# Altium schematic symbol library Caps$.SchLib: 208 symbols (part 2 of 2)
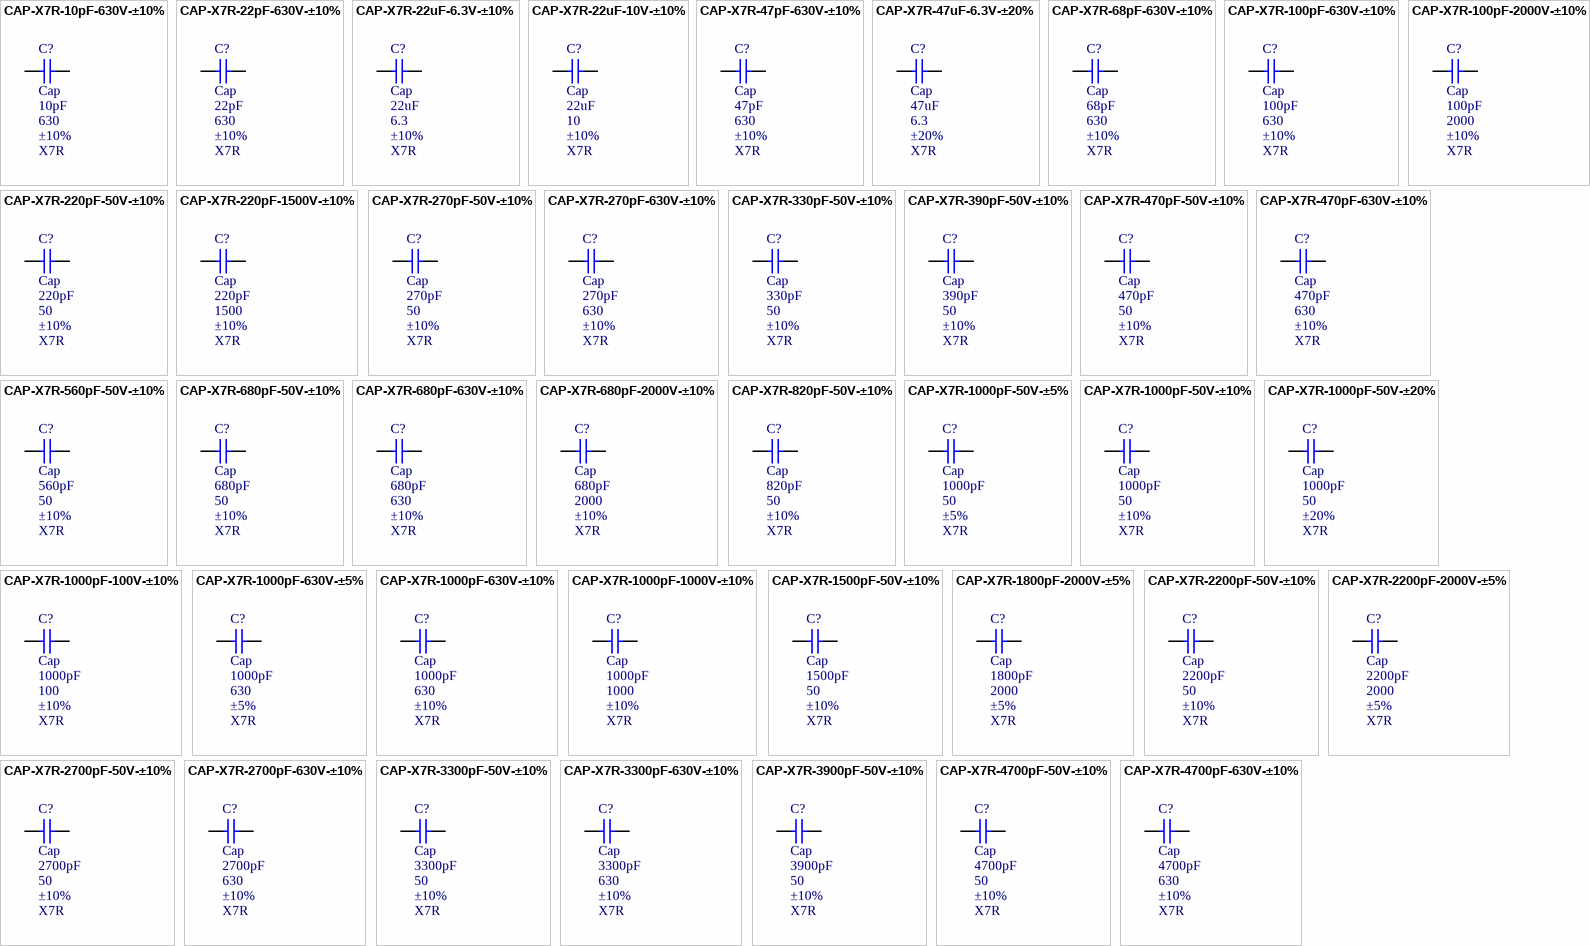
[diagram p6: symbols CAP-X7R-10pF-630V-±10% to CAP-X7R-4700pF-630V-±10%]

## CAP-X7R-220pF-50V-±10%
designator C?, comment Cap  value 220pF  WV: 50  Tolerance: ±10%  Type: X7R
CAP CER 220pF 50v X7R 0805; MPN: C0805C221K5RACTU; Name: CAP-X7R-220pF-50V-±10%; PN: 399-1138-1-ND; URL: http://www.digikey.ca/product-detail/en/C0805C221K5RACTU/399-1138-1-ND
footprint CAPC2012X09M (Chip Capacitor, 2-Leads, Body 2.00x1.25mm, IPC Low Density)
pins: 1, 2

## CAP-X7R-220pF-1500V-±10%
designator C?, comment Cap  value 220pF  WV: 1500  Tolerance: ±10%  Type: X7R
CAP CER 220pF 1500v X7R 1210; MPN: C1210C221KFRACTU; Name: CAP-X7R-220pF-1500V-±10%; PN: 399-3440-1-ND; URL: http://www.digikey.ca/product-detail/en/C1210C221KFRACTU/399-3440-1-ND
footprint CAPC2012X09M (Chip Capacitor, 2-Leads, Body 2.00x1.25mm, IPC Low Density)
footprint CAPC3225X25M
pins: 1, 2

## CAP-X7R-270pF-50V-±10%
designator C?, comment Cap  value 270pF  WV: 50  Tolerance: ±10%  Type: X7R
CAP CER 270pF 50v X7R 0805; MPN: C0805C271K5RACTU; Name: CAP-X7R-270pF-50V-±10%; PN: 399-1139-1-ND; URL: http://www.digikey.ca/product-detail/en/C0805C271K5RACTU/399-1139-1-ND
footprint CAPC2012X09M (Chip Capacitor, 2-Leads, Body 2.00x1.25mm, IPC Low Density)
pins: 1, 2

## CAP-X7R-270pF-630V-±10%
designator C?, comment Cap  value 270pF  WV: 630  Tolerance: ±10%  Type: X7R
CAP CER 270pF 630v X7R 0805; MPN: C0805C271KBRACTU; Name: CAP-X7R-270pF-630V-±10%; PN: 399-5572-1-ND; URL: http://www.digikey.ca/product-detail/en/C0805C271KBRACTU/399-5572-1-ND
footprint CAPC2012X09M (Chip Capacitor, 2-Leads, Body 2.00x1.25mm, IPC Low Density)
pins: 1, 2

## CAP-X7R-330pF-50V-±10%
designator C?, comment Cap  value 330pF  WV: 50  Tolerance: ±10%  Type: X7R
CAP CER 330pF 50v X7R 0805; MPN: C0805C331K5RACTU; Name: CAP-X7R-330pF-50V-±10%; PN: 399-1140-1-ND; URL: http://www.digikey.ca/product-detail/en/C0805C331K5RACTU/399-1140-1-ND
footprint CAPC2012X09M (Chip Capacitor, 2-Leads, Body 2.00x1.25mm, IPC Low Density)
pins: 1, 2

## CAP-X7R-390pF-50V-±10%
designator C?, comment Cap  value 390pF  WV: 50  Tolerance: ±10%  Type: X7R
CAP CER 390pF 50v X7R 0805; MPN: C0805C391K5RACTU; Name: CAP-X7R-390pF-50V-±10%; PN: 399-1141-1-ND; URL: http://www.digikey.ca/product-detail/en/C0805C391K5RACTU/399-1141-1-ND
footprint CAPC2012X09M (Chip Capacitor, 2-Leads, Body 2.00x1.25mm, IPC Low Density)
pins: 1, 2

## CAP-X7R-470pF-50V-±10%
designator C?, comment Cap  value 470pF  WV: 50  Tolerance: ±10%  Type: X7R
CAP CER 470pF 50v X7R 0805; MPN: C0805C471K5RACTU; Name: CAP-X7R-470pF-50V-±10%; PN: 399-1142-1-ND; URL: http://www.digikey.ca/product-detail/en/C0805C471K5RACTU/399-1142-1-ND
footprint CAPC2012X09M (Chip Capacitor, 2-Leads, Body 2.00x1.25mm, IPC Low Density)
pins: 1, 2

## CAP-X7R-470pF-630V-±10%
designator C?, comment Cap  value 470pF  WV: 630  Tolerance: ±10%  Type: X7R
CAP CER 470pF 630v X7R 1210; MPN: C1210C471KBRACTU; Name: CAP-X7R-470pF-630V-±10%; PN: 399-5591-1-ND; URL: http://www.digikey.ca/product-detail/en/C1210C471KBRACTU/399-5591-1-ND
footprint CAPC2012X09M (Chip Capacitor, 2-Leads, Body 2.00x1.25mm, IPC Low Density)
footprint CAPC3225X25M
pins: 1, 2

## CAP-X7R-560pF-50V-±10%
designator C?, comment Cap  value 560pF  WV: 50  Tolerance: ±10%  Type: X7R
CAP CER 560pF 50v X7R 0805; MPN: C0805C561K5RACTU; Name: CAP-X7R-560pF-50V-±10%; PN: 399-1143-1-ND; URL: http://www.digikey.ca/product-detail/en/C0805C561K5RACTU/399-1143-1-ND
footprint CAPC2012X09M (Chip Capacitor, 2-Leads, Body 2.00x1.25mm, IPC Low Density)
pins: 1, 2

## CAP-X7R-680pF-50V-±10%
designator C?, comment Cap  value 680pF  WV: 50  Tolerance: ±10%  Type: X7R
CAP CER 680pF 50v X7R 0805; MPN: C0805C681K5RACTU; Name: CAP-X7R-680pF-50V-±10%; PN: 399-1144-1-ND; URL: http://www.digikey.ca/product-detail/en/C0805C681K5RACTU/399-1144-1-ND
footprint CAPC2012X09M (Chip Capacitor, 2-Leads, Body 2.00x1.25mm, IPC Low Density)
pins: 1, 2

## CAP-X7R-680pF-630V-±10%
designator C?, comment Cap  value 680pF  WV: 630  Tolerance: ±10%  Type: X7R
CAP CER 680pF 630v X7R 0805; MPN: C0805C681KBRACTU; Name: CAP-X7R-680pF-630V-±10%; PN: 399-5573-1-ND; URL: http://www.digikey.ca/product-detail/en/C0805C681KBRACTU/399-5573-1-ND
footprint CAPC2012X09M (Chip Capacitor, 2-Leads, Body 2.00x1.25mm, IPC Low Density)
pins: 1, 2

## CAP-X7R-680pF-2000V-±10%
designator C?, comment Cap  value 680pF  WV: 2000  Tolerance: ±10%  Type: X7R
CAP CER 680pF 2000v X7R 1210; MPN: C1210C681KGRACTU; Name: CAP-X7R-680pF-2000V-±10%; PN: 399-3441-1-ND; URL: http://www.digikey.ca/product-detail/en/C1210C681KGRACTU/399-3441-1-ND
footprint CAPC2012X09M (Chip Capacitor, 2-Leads, Body 2.00x1.25mm, IPC Low Density)
footprint CAPC3225X25M
pins: 1, 2

## CAP-X7R-820pF-50V-±10%
designator C?, comment Cap  value 820pF  WV: 50  Tolerance: ±10%  Type: X7R
CAP CER 820pF 50v X7R 0805; MPN: C0805C821K5RACTU; Name: CAP-X7R-820pF-50V-±10%; PN: 399-1145-1-ND; URL: http://www.digikey.ca/product-detail/en/C0805C821K5RACTU/399-1145-1-ND
footprint CAPC2012X09M (Chip Capacitor, 2-Leads, Body 2.00x1.25mm, IPC Low Density)
pins: 1, 2

## CAP-X7R-1000pF-50V-±5%
designator C?, comment Cap  value 1000pF  WV: 50  Tolerance: ±5%  Type: X7R
CAP CER 1000pF 50v X7R 0805; MPN: C0805C102J5RACTU; Name: CAP-X7R-1000pF-50V-±5%; PN: 399-1149-1-ND; URL: http://www.digikey.ca/product-detail/en/C0805C102J5RACTU/399-1149-1-ND
footprint CAPC2012X09M (Chip Capacitor, 2-Leads, Body 2.00x1.25mm, IPC Low Density)
pins: 1, 2

## CAP-X7R-1000pF-50V-±10%
designator C?, comment Cap  value 1000pF  WV: 50  Tolerance: ±10%  Type: X7R
CAP CER 1000pF 50v X7R 0805; MPN: C0805C102K5RACTU; Name: CAP-X7R-1000pF-50V-±10%; PN: 399-1147-1-ND; URL: http://www.digikey.ca/product-detail/en/C0805C102K5RACTU/399-1147-1-ND
footprint CAPC2012X09M (Chip Capacitor, 2-Leads, Body 2.00x1.25mm, IPC Low Density)
pins: 1, 2

## CAP-X7R-1000pF-50V-±20%
designator C?, comment Cap  value 1000pF  WV: 50  Tolerance: ±20%  Type: X7R
CAP CER 1000pF 50v X7R 0805; MPN: C0805C102M5RACTU; Name: CAP-X7R-1000pF-50V-±20%; PN: 399-1146-1-ND; URL: http://www.digikey.ca/product-detail/en/C0805C102M5RACTU/399-1146-1-ND
footprint CAPC2012X09M (Chip Capacitor, 2-Leads, Body 2.00x1.25mm, IPC Low Density)
pins: 1, 2

## CAP-X7R-1000pF-100V-±10%
designator C?, comment Cap  value 1000pF  WV: 100  Tolerance: ±10%  Type: X7R
CAP CER 1000pF 100v X7R 0805; MPN: C0805C102K1RACTU; Name: CAP-X7R-1000pF-100V-±10%; PN: 399-1148-1-ND; URL: http://www.digikey.ca/product-detail/en/C0805C102K1RACTU/399-1148-1-ND
footprint CAPC2012X09M (Chip Capacitor, 2-Leads, Body 2.00x1.25mm, IPC Low Density)
pins: 1, 2

## CAP-X7R-1000pF-630V-±5%
designator C?, comment Cap  value 1000pF  WV: 630  Tolerance: ±5%  Type: X7R
CAP CER 1000pF 630v X7R 0805; MPN: C0805C102JBRACTU; Name: CAP-X7R-1000pF-630V-±5%; PN: 399-5574-1-ND; URL: http://www.digikey.ca/product-detail/en/C0805C102JBRACTU/399-5574-1-ND
footprint CAPC2012X09M (Chip Capacitor, 2-Leads, Body 2.00x1.25mm, IPC Low Density)
pins: 1, 2

## CAP-X7R-1000pF-630V-±10%
designator C?, comment Cap  value 1000pF  WV: 630  Tolerance: ±10%  Type: X7R
CAP CER 1000pF 630v X7R 0805; MPN: C0805C102KBRACTU; Name: CAP-X7R-1000pF-630V-±10%; PN: 399-5575-1-ND; URL: http://www.digikey.ca/product-detail/en/C0805C102KBRACTU/399-5575-1-ND
footprint CAPC2012X09M (Chip Capacitor, 2-Leads, Body 2.00x1.25mm, IPC Low Density)
pins: 1, 2

## CAP-X7R-1000pF-1000V-±10%
designator C?, comment Cap  value 1000pF  WV: 1000  Tolerance: ±10%  Type: X7R
CAP CER 1000pF 1000v X7R 0805; MPN: C0805C102KDRACTU; Name: CAP-X7R-1000pF-1000V-±10%; PN: 399-4818-1-ND; URL: http://www.digikey.ca/product-detail/en/C0805C102KDRACTU/399-4818-1-ND
footprint CAPC2012X09M (Chip Capacitor, 2-Leads, Body 2.00x1.25mm, IPC Low Density)
pins: 1, 2

## CAP-X7R-1500pF-50V-±10%
designator C?, comment Cap  value 1500pF  WV: 50  Tolerance: ±10%  Type: X7R
CAP CER 1500pF 50v X7R 0805; MPN: C0805C152K5RACTU; Name: CAP-X7R-1500pF-50V-±10%; PN: 399-1150-1-ND; URL: http://www.digikey.ca/product-detail/en/C0805C152K5RACTU/399-1150-1-ND
footprint CAPC2012X09M (Chip Capacitor, 2-Leads, Body 2.00x1.25mm, IPC Low Density)
pins: 1, 2

## CAP-X7R-1800pF-2000V-±5%
designator C?, comment Cap  value 1800pF  WV: 2000  Tolerance: ±5%  Type: X7R
CAP CER 1800pF 2000v X7R 1210; MPN: C1210C182JGRACTU; Name: CAP-X7R-1800pF-2000V-±5%; PN: 399-4821-1-ND; URL: http://www.digikey.ca/product-detail/en/C1210C182JGRACTU/399-4821-1-ND
footprint CAPC2012X09M (Chip Capacitor, 2-Leads, Body 2.00x1.25mm, IPC Low Density)
footprint CAPC3225X25M
pins: 1, 2

## CAP-X7R-2200pF-50V-±10%
designator C?, comment Cap  value 2200pF  WV: 50  Tolerance: ±10%  Type: X7R
CAP CER 2200pF 50v X7R 0805; MPN: C0805C222K5RACTU; Name: CAP-X7R-2200pF-50V-±10%; PN: 399-1151-1-ND; URL: http://www.digikey.ca/product-detail/en/C0805C222K5RACTU/399-1151-1-ND
footprint CAPC2012X09M (Chip Capacitor, 2-Leads, Body 2.00x1.25mm, IPC Low Density)
pins: 1, 2

## CAP-X7R-2200pF-2000V-±5%
designator C?, comment Cap  value 2200pF  WV: 2000  Tolerance: ±5%  Type: X7R
CAP CER 2200pF 2000v X7R 1210; MPN: C1210C222JGRACTU; Name: CAP-X7R-2200pF-2000V-±5%; PN: 399-4822-1-ND; URL: http://www.digikey.ca/product-detail/en/C1210C222JGRACTU/399-4822-1-ND
footprint CAPC2012X09M (Chip Capacitor, 2-Leads, Body 2.00x1.25mm, IPC Low Density)
footprint CAPC3225X25M
pins: 1, 2

## CAP-X7R-2700pF-50V-±10%
designator C?, comment Cap  value 2700pF  WV: 50  Tolerance: ±10%  Type: X7R
CAP CER 2700pF 50v X7R 0805; MPN: C0805C272K5RACTU; Name: CAP-X7R-2700pF-50V-±10%; PN: 399-1152-1-ND; URL: http://www.digikey.ca/product-detail/en/C0805C272K5RACTU/399-1152-1-ND
footprint CAPC2012X09M (Chip Capacitor, 2-Leads, Body 2.00x1.25mm, IPC Low Density)
pins: 1, 2

## CAP-X7R-2700pF-630V-±10%
designator C?, comment Cap  value 2700pF  WV: 630  Tolerance: ±10%  Type: X7R
CAP CER 2700pF 630v X7R 1210; MPN: C1210C272KBRACTU; Name: CAP-X7R-2700pF-630V-±10%; PN: 399-5594-1-ND; URL: http://www.digikey.ca/product-detail/en/C1210C272KBRACTU/399-5594-1-ND
footprint CAPC2012X09M (Chip Capacitor, 2-Leads, Body 2.00x1.25mm, IPC Low Density)
footprint CAPC3225X25M
pins: 1, 2

## CAP-X7R-3300pF-50V-±10%
designator C?, comment Cap  value 3300pF  WV: 50  Tolerance: ±10%  Type: X7R
CAP CER 3300pF 50v X7R 0805; MPN: C0805C332K5RACTU; Name: CAP-X7R-3300pF-50V-±10%; PN: 399-1153-1-ND; URL: http://www.digikey.ca/product-detail/en/C0805C332K5RACTU/399-1153-1-ND
footprint CAPC2012X09M (Chip Capacitor, 2-Leads, Body 2.00x1.25mm, IPC Low Density)
pins: 1, 2

## CAP-X7R-3300pF-630V-±10%
designator C?, comment Cap  value 3300pF  WV: 630  Tolerance: ±10%  Type: X7R
CAP CER 3300pF 630v X7R 0805; MPN: C0805C332KBRACTU; Name: CAP-X7R-3300pF-630V-±10%; PN: 399-5576-1-ND; URL: http://www.digikey.ca/product-detail/en/C0805C332KBRACTU/399-5576-1-ND
footprint CAPC2012X09M (Chip Capacitor, 2-Leads, Body 2.00x1.25mm, IPC Low Density)
pins: 1, 2

## CAP-X7R-3900pF-50V-±10%
designator C?, comment Cap  value 3900pF  WV: 50  Tolerance: ±10%  Type: X7R
CAP CER 3900pF 50v X7R 0805; MPN: C0805C392K5RACTU; Name: CAP-X7R-3900pF-50V-±10%; PN: 399-1154-1-ND; URL: http://www.digikey.ca/product-detail/en/C0805C392K5RACTU/399-1154-1-ND
footprint CAPC2012X09M (Chip Capacitor, 2-Leads, Body 2.00x1.25mm, IPC Low Density)
pins: 1, 2

## CAP-X7R-4700pF-50V-±10%
designator C?, comment Cap  value 4700pF  WV: 50  Tolerance: ±10%  Type: X7R
CAP CER 4700pF 50v X7R 0805; MPN: C0805C472K5RACTU; Name: CAP-X7R-4700pF-50V-±10%; PN: 399-1155-1-ND; URL: http://www.digikey.ca/product-detail/en/C0805C472K5RACTU/399-1155-1-ND
footprint CAPC2012X09M (Chip Capacitor, 2-Leads, Body 2.00x1.25mm, IPC Low Density)
pins: 1, 2

## CAP-X7R-4700pF-630V-±10%
designator C?, comment Cap  value 4700pF  WV: 630  Tolerance: ±10%  Type: X7R
CAP CER 4700pF 630v X7R 1210; MPN: C1210C472KBRACTU; Name: CAP-X7R-4700pF-630V-±10%; PN: 399-5595-1-ND; URL: http://www.digikey.ca/product-detail/en/C1210C472KBRACTU/399-5595-1-ND
footprint CAPC2012X09M (Chip Capacitor, 2-Leads, Body 2.00x1.25mm, IPC Low Density)
footprint CAPC3225X25M
pins: 1, 2

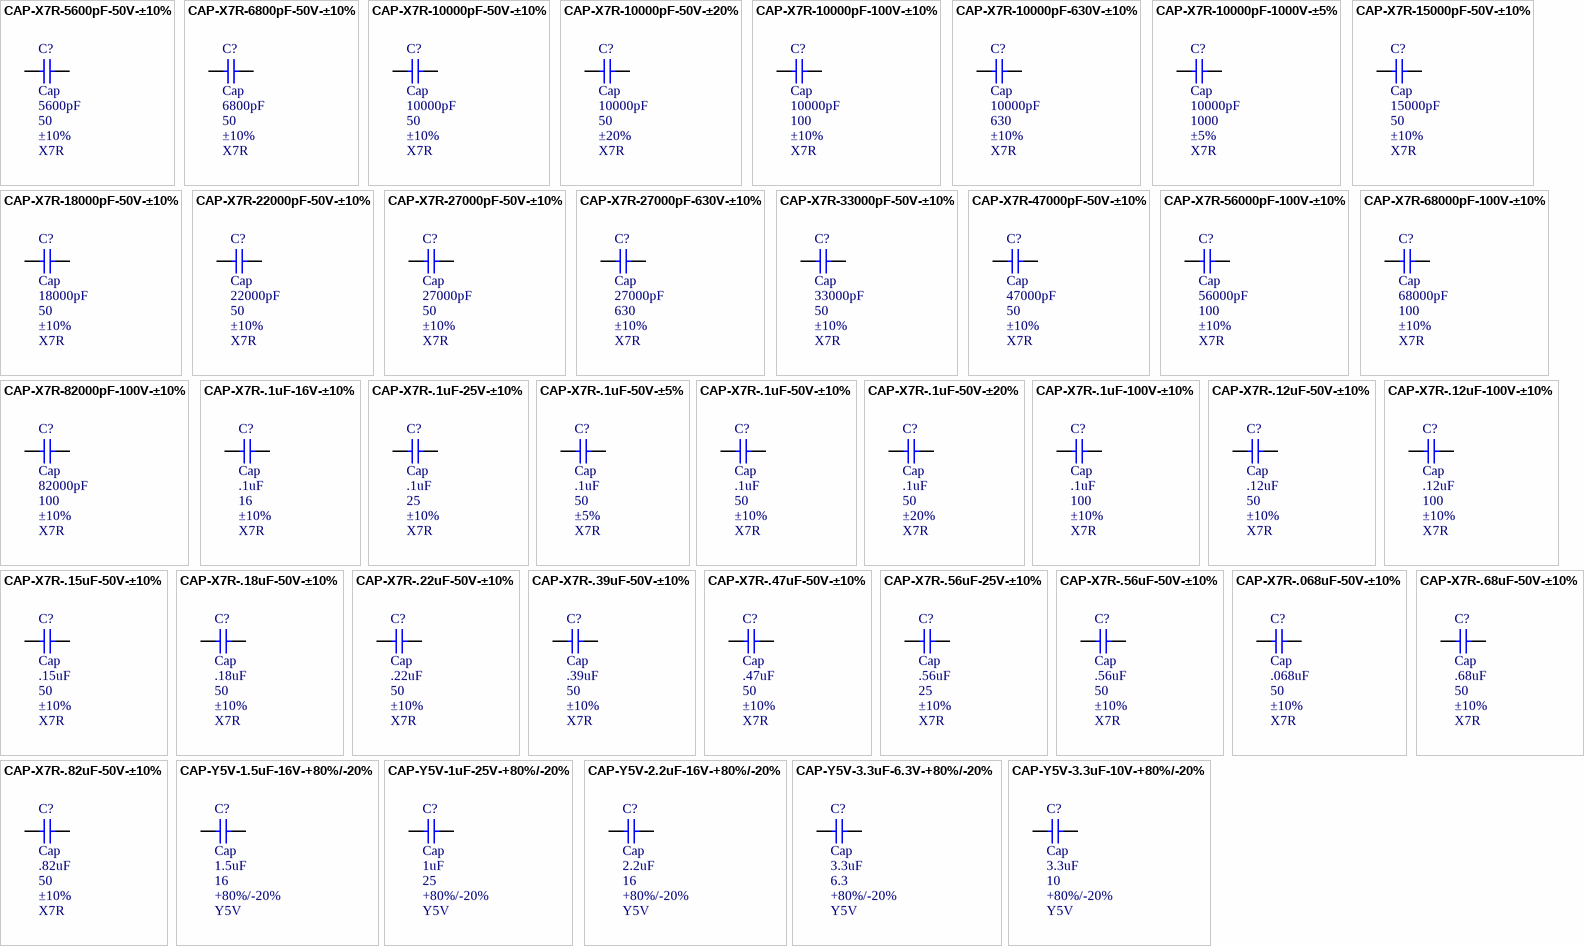
[diagram p4: symbols CAP-X7R-5600pF-50V-±10% to CAP-Y5V-3.3uF-10V-+80%/-20%]

## CAP-X7R-5600pF-50V-±10%
designator C?, comment Cap  value 5600pF  WV: 50  Tolerance: ±10%  Type: X7R
CAP CER 5600pF 50v X7R 0805; MPN: C0805C562K5RACTU; Name: CAP-X7R-5600pF-50V-±10%; PN: 399-1156-1-ND; URL: http://www.digikey.ca/product-detail/en/C0805C562K5RACTU/399-1156-1-ND
footprint CAPC2012X09M (Chip Capacitor, 2-Leads, Body 2.00x1.25mm, IPC Low Density)
pins: 1, 2

## CAP-X7R-6800pF-50V-±10%
designator C?, comment Cap  value 6800pF  WV: 50  Tolerance: ±10%  Type: X7R
CAP CER 6800pF 50v X7R 0805; MPN: C0805C682K5RACTU; Name: CAP-X7R-6800pF-50V-±10%; PN: 399-1157-1-ND; URL: http://www.digikey.ca/product-detail/en/C0805C682K5RACTU/399-1157-1-ND
footprint CAPC2012X09M (Chip Capacitor, 2-Leads, Body 2.00x1.25mm, IPC Low Density)
pins: 1, 2

## CAP-X7R-10000pF-50V-±10%
designator C?, comment Cap  value 10000pF  WV: 50  Tolerance: ±10%  Type: X7R
CAP CER 10000pF 50v X7R 0805; MPN: C0805C103K5RACTU; Name: CAP-X7R-10000pF-50V-±10%; PN: 399-1158-1-ND; URL: http://www.digikey.ca/product-detail/en/C0805C103K5RACTU/399-1158-1-ND
footprint CAPC2012X09M (Chip Capacitor, 2-Leads, Body 2.00x1.25mm, IPC Low Density)
pins: 1, 2

## CAP-X7R-10000pF-50V-±20%
designator C?, comment Cap  value 10000pF  WV: 50  Tolerance: ±20%  Type: X7R
CAP CER 10000pF 50v X7R 0805; MPN: C0805C103M5RACTU; Name: CAP-X7R-10000pF-50V-±20%; PN: 399-1160-1-ND; URL: http://www.digikey.ca/product-detail/en/C0805C103M5RACTU/399-1160-1-ND
footprint CAPC2012X09M (Chip Capacitor, 2-Leads, Body 2.00x1.25mm, IPC Low Density)
pins: 1, 2

## CAP-X7R-10000pF-100V-±10%
designator C?, comment Cap  value 10000pF  WV: 100  Tolerance: ±10%  Type: X7R
CAP CER 10000pF 100v X7R 0805; MPN: C0805C103K1RACTU; Name: CAP-X7R-10000pF-100V-±10%; PN: 399-1159-1-ND; URL: http://www.digikey.ca/product-detail/en/C0805C103K1RACTU/399-1159-1-ND
footprint CAPC2012X09M (Chip Capacitor, 2-Leads, Body 2.00x1.25mm, IPC Low Density)
pins: 1, 2

## CAP-X7R-10000pF-630V-±10%
designator C?, comment Cap  value 10000pF  WV: 630  Tolerance: ±10%  Type: X7R
CAP CER 10000pF 630v X7R 1210; MPN: C1210C103KBRACTU; Name: CAP-X7R-10000pF-630V-±10%; PN: 399-5596-1-ND; URL: http://www.digikey.ca/product-detail/en/C1210C103KBRACTU/399-5596-1-ND
footprint CAPC2012X09M (Chip Capacitor, 2-Leads, Body 2.00x1.25mm, IPC Low Density)
footprint CAPC3225X25M
pins: 1, 2

## CAP-X7R-10000pF-1000V-±5%
designator C?, comment Cap  value 10000pF  WV: 1000  Tolerance: ±5%  Type: X7R
CAP CER 10000pF 1000v X7R 1210; MPN: C1210C103JDRACTU; Name: CAP-X7R-10000pF-1000V-±5%; PN: 399-5106-1-ND; URL: http://www.digikey.ca/product-detail/en/C1210C103JDRACTU/399-5106-1-ND
footprint CAPC2012X09M (Chip Capacitor, 2-Leads, Body 2.00x1.25mm, IPC Low Density)
footprint CAPC3225X25M
pins: 1, 2

## CAP-X7R-15000pF-50V-±10%
designator C?, comment Cap  value 15000pF  WV: 50  Tolerance: ±10%  Type: X7R
CAP CER 15000pF 50v X7R 0805; MPN: C0805C153K5RACTU; Name: CAP-X7R-15000pF-50V-±10%; PN: 399-1161-1-ND; URL: http://www.digikey.ca/product-detail/en/C0805C153K5RACTU/399-1161-1-ND
footprint CAPC2012X09M (Chip Capacitor, 2-Leads, Body 2.00x1.25mm, IPC Low Density)
pins: 1, 2

## CAP-X7R-18000pF-50V-±10%
designator C?, comment Cap  value 18000pF  WV: 50  Tolerance: ±10%  Type: X7R
CAP CER 18000pF 50v X7R 0805; MPN: C0805C183K5RACTU; Name: CAP-X7R-18000pF-50V-±10%; PN: 399-1162-1-ND; URL: http://www.digikey.ca/product-detail/en/C0805C183K5RACTU/399-1162-1-ND
footprint CAPC2012X09M (Chip Capacitor, 2-Leads, Body 2.00x1.25mm, IPC Low Density)
pins: 1, 2

## CAP-X7R-22000pF-50V-±10%
designator C?, comment Cap  value 22000pF  WV: 50  Tolerance: ±10%  Type: X7R
CAP CER 22000pF 50v X7R 0805; MPN: C0805C223K5RACTU; Name: CAP-X7R-22000pF-50V-±10%; PN: 399-1163-1-ND; URL: http://www.digikey.ca/product-detail/en/C0805C223K5RACTU/399-1163-1-ND
footprint CAPC2012X09M (Chip Capacitor, 2-Leads, Body 2.00x1.25mm, IPC Low Density)
pins: 1, 2

## CAP-X7R-27000pF-50V-±10%
designator C?, comment Cap  value 27000pF  WV: 50  Tolerance: ±10%  Type: X7R
CAP CER 27000pF 50v X7R 0805; MPN: C0805C273K5RACTU; Name: CAP-X7R-27000pF-50V-±10%; PN: 399-1164-1-ND; URL: http://www.digikey.ca/product-detail/en/C0805C273K5RACTU/399-1164-1-ND
footprint CAPC2012X09M (Chip Capacitor, 2-Leads, Body 2.00x1.25mm, IPC Low Density)
pins: 1, 2

## CAP-X7R-27000pF-630V-±10%
designator C?, comment Cap  value 27000pF  WV: 630  Tolerance: ±10%  Type: X7R
CAP CER 27000pF 630v X7R 1210; MPN: C1210C273KBRACTU; Name: CAP-X7R-27000pF-630V-±10%; PN: 399-5597-1-ND; URL: http://www.digikey.ca/product-detail/en/C1210C273KBRACTU/399-5597-1-ND
footprint CAPC2012X09M (Chip Capacitor, 2-Leads, Body 2.00x1.25mm, IPC Low Density)
footprint CAPC3225X25M
pins: 1, 2

## CAP-X7R-33000pF-50V-±10%
designator C?, comment Cap  value 33000pF  WV: 50  Tolerance: ±10%  Type: X7R
CAP CER 33000pF 50v X7R 0805; MPN: C0805C333K5RACTU; Name: CAP-X7R-33000pF-50V-±10%; PN: 399-1165-1-ND; URL: http://www.digikey.ca/product-detail/en/C0805C333K5RACTU/399-1165-1-ND
footprint CAPC2012X09M (Chip Capacitor, 2-Leads, Body 2.00x1.25mm, IPC Low Density)
pins: 1, 2

## CAP-X7R-47000pF-50V-±10%
designator C?, comment Cap  value 47000pF  WV: 50  Tolerance: ±10%  Type: X7R
CAP CER 47000pF 50v X7R 0805; MPN: C0805C473K5RACTU; Name: CAP-X7R-47000pF-50V-±10%; PN: 399-1166-1-ND; URL: http://www.digikey.ca/product-detail/en/C0805C473K5RACTU/399-1166-1-ND
footprint CAPC2012X09M (Chip Capacitor, 2-Leads, Body 2.00x1.25mm, IPC Low Density)
pins: 1, 2

## CAP-X7R-56000pF-100V-±10%
designator C?, comment Cap  value 56000pF  WV: 100  Tolerance: ±10%  Type: X7R
CAP CER 56000pF 100v X7R 0805; MPN: C0805C563K1RACTU; Name: CAP-X7R-56000pF-100V-±10%; PN: 399-3483-1-ND; URL: http://www.digikey.ca/product-detail/en/C0805C563K1RACTU/399-3483-1-ND
footprint CAPC2012X09M (Chip Capacitor, 2-Leads, Body 2.00x1.25mm, IPC Low Density)
pins: 1, 2

## CAP-X7R-68000pF-100V-±10%
designator C?, comment Cap  value 68000pF  WV: 100  Tolerance: ±10%  Type: X7R
CAP CER 68000pF 100v X7R 0805; MPN: C0805C683K1RACTU; Name: CAP-X7R-68000pF-100V-±10%; PN: 399-3484-1-ND; URL: http://www.digikey.ca/product-detail/en/C0805C683K1RACTU/399-3484-1-ND
footprint CAPC2012X09M (Chip Capacitor, 2-Leads, Body 2.00x1.25mm, IPC Low Density)
pins: 1, 2

## CAP-X7R-82000pF-100V-±10%
designator C?, comment Cap  value 82000pF  WV: 100  Tolerance: ±10%  Type: X7R
CAP CER 82000pF 100v X7R 0805; MPN: C0805C823K1RACTU; Name: CAP-X7R-82000pF-100V-±10%; PN: 399-3485-1-ND; URL: http://www.digikey.ca/product-detail/en/C0805C823K1RACTU/399-3485-1-ND
footprint CAPC2012X09M (Chip Capacitor, 2-Leads, Body 2.00x1.25mm, IPC Low Density)
pins: 1, 2

## CAP-X7R-.1uF-16V-±10%
designator C?, comment Cap  value .1uF  WV: 16  Tolerance: ±10%  Type: X7R
CAP CER .1uF 16v X7R 0805; MPN: C0805C104K4RACTU; Name: CAP-X7R-.1uF-16V-±10%; PN: 399-1167-1-ND; URL: http://www.digikey.ca/product-detail/en/C0805C104K4RACTU/399-1167-1-ND
footprint CAPC2012X09M (Chip Capacitor, 2-Leads, Body 2.00x1.25mm, IPC Low Density)
pins: 1, 2

## CAP-X7R-.1uF-25V-±10%
designator C?, comment Cap  value .1uF  WV: 25  Tolerance: ±10%  Type: X7R
CAP CER .1uF 25v X7R 0805; MPN: C0805C104K3RACTU; Name: CAP-X7R-.1uF-25V-±10%; PN: 399-1168-1-ND; URL: http://www.digikey.ca/product-detail/en/C0805C104K3RACTU/399-1168-1-ND
footprint CAPC2012X09M (Chip Capacitor, 2-Leads, Body 2.00x1.25mm, IPC Low Density)
pins: 1, 2

## CAP-X7R-.1uF-50V-±5%
designator C?, comment Cap  value .1uF  WV: 50  Tolerance: ±5%  Type: X7R
CAP CER .1uF 50v X7R 0805; MPN: C0805C104J5RACTU; Name: CAP-X7R-.1uF-50V-±5%; PN: 399-1171-1-ND; URL: http://www.digikey.ca/product-detail/en/C0805C104J5RACTU/399-1171-1-ND
footprint CAPC2012X09M (Chip Capacitor, 2-Leads, Body 2.00x1.25mm, IPC Low Density)
pins: 1, 2

## CAP-X7R-.1uF-50V-±10%
designator C?, comment Cap  value .1uF  WV: 50  Tolerance: ±10%  Type: X7R
CAP CER .1uF 50v X7R 0805; MPN: C0805C104K5RACTU; Name: CAP-X7R-.1uF-50V-±10%; PN: 399-1170-1-ND; URL: http://www.digikey.ca/product-detail/en/C0805C104K5RACTU/399-1170-1-ND
footprint CAPC2012X09M (Chip Capacitor, 2-Leads, Body 2.00x1.25mm, IPC Low Density)
pins: 1, 2

## CAP-X7R-.1uF-50V-±20%
designator C?, comment Cap  value .1uF  WV: 50  Tolerance: ±20%  Type: X7R
CAP CER .1uF 50v X7R 0805; MPN: C0805C104M5RACTU; Name: CAP-X7R-.1uF-50V-±20%; PN: 399-1169-1-ND; URL: http://www.digikey.ca/product-detail/en/C0805C104M5RACTU/399-1169-1-ND
footprint CAPC2012X09M (Chip Capacitor, 2-Leads, Body 2.00x1.25mm, IPC Low Density)
pins: 1, 2

## CAP-X7R-.1uF-100V-±10%
designator C?, comment Cap  value .1uF  WV: 100  Tolerance: ±10%  Type: X7R
CAP CER .1uF 100v X7R 0805; MPN: C0805C104K1RACTU; Name: CAP-X7R-.1uF-100V-±10%; PN: 399-3486-1-ND; URL: http://www.digikey.ca/product-detail/en/C0805C104K1RACTU/399-3486-1-ND
footprint CAPC2012X09M (Chip Capacitor, 2-Leads, Body 2.00x1.25mm, IPC Low Density)
pins: 1, 2

## CAP-X7R-.12uF-50V-±10%
designator C?, comment Cap  value .12uF  WV: 50  Tolerance: ±10%  Type: X7R
CAP CER .12uF 50v X7R 0805; MPN: C0805C124K5RACTU; Name: CAP-X7R-.12uF-50V-±10%; PN: 399-3487-1-ND; URL: http://www.digikey.ca/product-detail/en/C0805C124K5RACTU/399-3487-1-ND
footprint CAPC2012X09M (Chip Capacitor, 2-Leads, Body 2.00x1.25mm, IPC Low Density)
pins: 1, 2

## CAP-X7R-.12uF-100V-±10%
designator C?, comment Cap  value .12uF  WV: 100  Tolerance: ±10%  Type: X7R
CAP CER .12uF 100v X7R 0805; MPN: C0805C124K1RACTU; Name: CAP-X7R-.12uF-100V-±10%; PN: 399-3488-1-ND; URL: http://www.digikey.ca/product-detail/en/C0805C124K1RACTU/399-3488-1-ND
footprint CAPC2012X09M (Chip Capacitor, 2-Leads, Body 2.00x1.25mm, IPC Low Density)
pins: 1, 2

## CAP-X7R-.15uF-50V-±10%
designator C?, comment Cap  value .15uF  WV: 50  Tolerance: ±10%  Type: X7R
CAP CER .15uF 50v X7R 0805; MPN: C0805C154K5RACTU; Name: CAP-X7R-.15uF-50V-±10%; PN: 399-3489-1-ND; URL: http://www.digikey.ca/product-detail/en/C0805C154K5RACTU/399-3489-1-ND
footprint CAPC2012X09M (Chip Capacitor, 2-Leads, Body 2.00x1.25mm, IPC Low Density)
pins: 1, 2

## CAP-X7R-.18uF-50V-±10%
designator C?, comment Cap  value .18uF  WV: 50  Tolerance: ±10%  Type: X7R
CAP CER .18uF 50v X7R 0805; MPN: C0805C184K5RACTU; Name: CAP-X7R-.18uF-50V-±10%; PN: 399-3490-1-ND; URL: http://www.digikey.ca/product-detail/en/C0805C184K5RACTU/399-3490-1-ND
footprint CAPC2012X09M (Chip Capacitor, 2-Leads, Body 2.00x1.25mm, IPC Low Density)
pins: 1, 2

## CAP-X7R-.22uF-50V-±10%
designator C?, comment Cap  value .22uF  WV: 50  Tolerance: ±10%  Type: X7R
CAP CER .22uF 50v X7R 0805; MPN: C0805C224K5RACTU; Name: CAP-X7R-.22uF-50V-±10%; PN: 399-3491-1-ND; URL: http://www.digikey.ca/product-detail/en/C0805C224K5RACTU/399-3491-1-ND
footprint CAPC2012X09M (Chip Capacitor, 2-Leads, Body 2.00x1.25mm, IPC Low Density)
pins: 1, 2

## CAP-X7R-.39uF-50V-±10%
designator C?, comment Cap  value .39uF  WV: 50  Tolerance: ±10%  Type: X7R
CAP CER .39uF 50v X7R 1210; MPN: C1210C394K5RACTU; Name: CAP-X7R-.39uF-50V-±10%; PN: 399-3087-1-ND; URL: http://www.digikey.ca/product-detail/en/C1210C394K5RACTU/399-3087-1-ND
footprint CAPC2012X09M (Chip Capacitor, 2-Leads, Body 2.00x1.25mm, IPC Low Density)
footprint CAPC3225X25M
pins: 1, 2

## CAP-X7R-.47uF-50V-±10%
designator C?, comment Cap  value .47uF  WV: 50  Tolerance: ±10%  Type: X7R
CAP CER .47uF 50v X7R 1210; MPN: C1210C474K5RACTU; Name: CAP-X7R-.47uF-50V-±10%; PN: 399-3089-1-ND; URL: http://www.digikey.ca/product-detail/en/C1210C474K5RACTU/399-3089-1-ND
footprint CAPC2012X09M (Chip Capacitor, 2-Leads, Body 2.00x1.25mm, IPC Low Density)
footprint CAPC3225X25M
pins: 1, 2

## CAP-X7R-.56uF-25V-±10%
designator C?, comment Cap  value .56uF  WV: 25  Tolerance: ±10%  Type: X7R
CAP CER .56uF 25v X7R 0805; MPN: C0805C564K3RACTU; Name: CAP-X7R-.56uF-25V-±10%; PN: 399-3492-1-ND; URL: http://www.digikey.ca/product-detail/en/C0805C564K3RACTU/399-3492-1-ND
footprint CAPC2012X09M (Chip Capacitor, 2-Leads, Body 2.00x1.25mm, IPC Low Density)
pins: 1, 2

## CAP-X7R-.56uF-50V-±10%
designator C?, comment Cap  value .56uF  WV: 50  Tolerance: ±10%  Type: X7R
CAP CER .56uF 50v X7R 1210; MPN: C1210C564K5RACTU; Name: CAP-X7R-.56uF-50V-±10%; PN: 399-3091-1-ND; URL: http://www.digikey.ca/product-detail/en/C1210C564K5RACTU/399-3091-1-ND
footprint CAPC2012X09M (Chip Capacitor, 2-Leads, Body 2.00x1.25mm, IPC Low Density)
footprint CAPC3225X25M
pins: 1, 2

## CAP-X7R-.068uF-50V-±10%
designator C?, comment Cap  value .068uF  WV: 50  Tolerance: ±10%  Type: X7R
CAP CER .068uF 50v X7R 0805; MPN: C0805C683K5RACTU; Name: CAP-X7R-.068uF-50V-±10%; PN: 399-5623-1-ND; URL: http://www.digikey.ca/product-detail/en/C0805C683K5RACTU/399-5623-1-ND
footprint CAPC2012X09M (Chip Capacitor, 2-Leads, Body 2.00x1.25mm, IPC Low Density)
pins: 1, 2

## CAP-X7R-.68uF-50V-±10%
designator C?, comment Cap  value .68uF  WV: 50  Tolerance: ±10%  Type: X7R
CAP CER .68uF 50v X7R 1210; MPN: C1210C684K5RACTU; Name: CAP-X7R-.68uF-50V-±10%; PN: 399-3092-1-ND; URL: http://www.digikey.ca/product-detail/en/C1210C684K5RACTU/399-3092-1-ND
footprint CAPC2012X09M (Chip Capacitor, 2-Leads, Body 2.00x1.25mm, IPC Low Density)
footprint CAPC3225X25M
pins: 1, 2

## CAP-X7R-.82uF-50V-±10%
designator C?, comment Cap  value .82uF  WV: 50  Tolerance: ±10%  Type: X7R
CAP CER .82uF 50v X7R 1210; MPN: C1210C824K5RACTU; Name: CAP-X7R-.82uF-50V-±10%; PN: 399-3093-1-ND; URL: http://www.digikey.ca/product-detail/en/C1210C824K5RACTU/399-3093-1-ND
footprint CAPC2012X09M (Chip Capacitor, 2-Leads, Body 2.00x1.25mm, IPC Low Density)
footprint CAPC3225X25M
pins: 1, 2

## CAP-Y5V-1.5uF-16V-+80%/-20%
designator C?, comment Cap  value 1.5uF  WV: 16  Tolerance: +80%/-20%  Type: Y5V
CAP CER 1.5uF 16v Y5V 0805; MPN: C0805C155Z4VACTU; Name: CAP-Y5V-1.5uF-16V-+80%/-20%; PN: 399-1294-1-ND; URL: http://www.digikey.ca/product-detail/en/C0805C155Z4VACTU/399-1294-1-ND
footprint CAPC2012X09M (Chip Capacitor, 2-Leads, Body 2.00x1.25mm, IPC Low Density)
pins: 1, 2

## CAP-Y5V-1uF-25V-+80%/-20%
designator C?, comment Cap  value 1uF  WV: 25  Tolerance: +80%/-20%  Type: Y5V
CAP CER 1uF 25v Y5V 0805; MPN: C0805C105Z3VACTU; Name: CAP-Y5V-1uF-25V-+80%/-20%; PN: 399-1293-1-ND; URL: http://www.digikey.ca/product-detail/en/C0805C105Z3VACTU/399-1293-1-ND
footprint CAPC2012X09M (Chip Capacitor, 2-Leads, Body 2.00x1.25mm, IPC Low Density)
pins: 1, 2

## CAP-Y5V-2.2uF-16V-+80%/-20%
designator C?, comment Cap  value 2.2uF  WV: 16  Tolerance: +80%/-20%  Type: Y5V
CAP CER 2.2uF 16v Y5V 0805; MPN: C0805C225Z4VACTU; Name: CAP-Y5V-2.2uF-16V-+80%/-20%; PN: 399-1295-1-ND; URL: http://www.digikey.ca/product-detail/en/C0805C225Z4VACTU/399-1295-1-ND
footprint CAPC2012X09M (Chip Capacitor, 2-Leads, Body 2.00x1.25mm, IPC Low Density)
pins: 1, 2

## CAP-Y5V-3.3uF-6.3V-+80%/-20%
designator C?, comment Cap  value 3.3uF  WV: 6.3  Tolerance: +80%/-20%  Type: Y5V
CAP CER 3.3uF 6.3v Y5V 0805; MPN: C0805C335Z9VACTU; Name: CAP-Y5V-3.3uF-6.3V-+80%/-20%; PN: 399-3223-1-ND; URL: http://www.digikey.ca/product-detail/en/C0805C335Z9VACTU/399-3223-1-ND
footprint CAPC2012X09M (Chip Capacitor, 2-Leads, Body 2.00x1.25mm, IPC Low Density)
pins: 1, 2

## CAP-Y5V-3.3uF-10V-+80%/-20%
designator C?, comment Cap  value 3.3uF  WV: 10  Tolerance: +80%/-20%  Type: Y5V
CAP CER 3.3uF 10v Y5V 0805; MPN: C0805C335Z8VACTU; Name: CAP-Y5V-3.3uF-10V-+80%/-20%; PN: 399-3222-1-ND; URL: http://www.digikey.ca/product-detail/en/C0805C335Z8VACTU/399-3222-1-ND
footprint CAPC2012X09M (Chip Capacitor, 2-Leads, Body 2.00x1.25mm, IPC Low Density)
pins: 1, 2

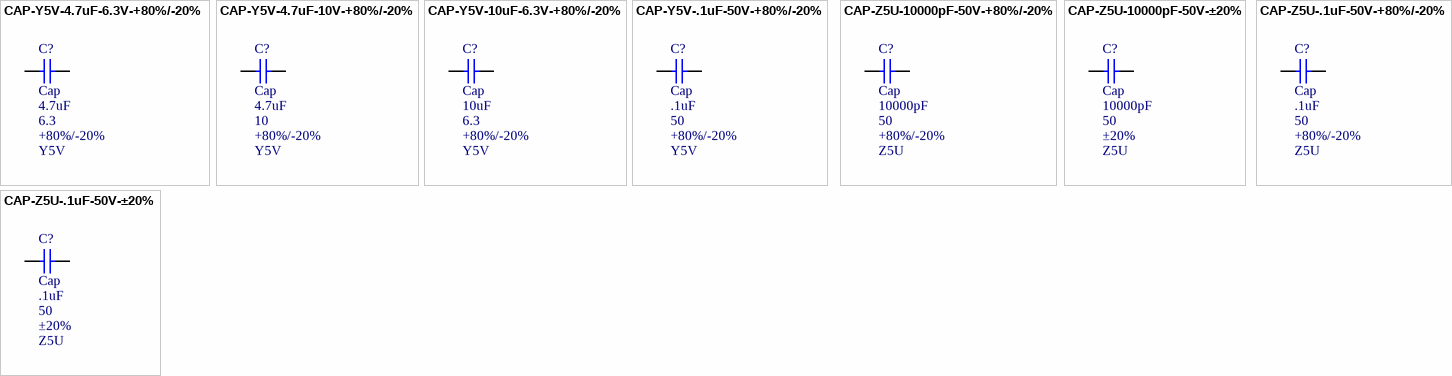
[diagram p5: symbols CAP-Y5V-4.7uF-6.3V-+80%/-20% to CAP-Z5U-.1uF-50V-±20%]

## CAP-Y5V-4.7uF-6.3V-+80%/-20%
designator C?, comment Cap  value 4.7uF  WV: 6.3  Tolerance: +80%/-20%  Type: Y5V
CAP CER 4.7uF 6.3v Y5V 0805; MPN: C0805C475Z9VACTU; Name: CAP-Y5V-4.7uF-6.3V-+80%/-20%; PN: 399-3225-1-ND; URL: http://www.digikey.ca/product-detail/en/C0805C475Z9VACTU/399-3225-1-ND
footprint CAPC2012X09M (Chip Capacitor, 2-Leads, Body 2.00x1.25mm, IPC Low Density)
pins: 1, 2

## CAP-Y5V-4.7uF-10V-+80%/-20%
designator C?, comment Cap  value 4.7uF  WV: 10  Tolerance: +80%/-20%  Type: Y5V
CAP CER 4.7uF 10v Y5V 0805; MPN: C0805C475Z8VACTU; Name: CAP-Y5V-4.7uF-10V-+80%/-20%; PN: 399-3224-1-ND; URL: http://www.digikey.ca/product-detail/en/C0805C475Z8VACTU/399-3224-1-ND
footprint CAPC2012X09M (Chip Capacitor, 2-Leads, Body 2.00x1.25mm, IPC Low Density)
pins: 1, 2

## CAP-Y5V-10uF-6.3V-+80%/-20%
designator C?, comment Cap  value 10uF  WV: 6.3  Tolerance: +80%/-20%  Type: Y5V
CAP CER 10uF 6.3v Y5V 0805; MPN: C0805C106Z9VACTU; Name: CAP-Y5V-10uF-6.3V-+80%/-20%; PN: 399-3295-1-ND; URL: http://www.digikey.ca/product-detail/en/C0805C106Z9VACTU/399-3295-1-ND
footprint CAPC2012X09M (Chip Capacitor, 2-Leads, Body 2.00x1.25mm, IPC Low Density)
pins: 1, 2

## CAP-Y5V-.1uF-50V-+80%/-20%
designator C?, comment Cap  value .1uF  WV: 50  Tolerance: +80%/-20%  Type: Y5V
CAP CER .1uF 50v Y5V 0805; MPN: C0805C104Z5VACTU; Name: CAP-Y5V-.1uF-50V-+80%/-20%; PN: 399-1177-1-ND; URL: http://www.digikey.ca/product-detail/en/C0805C104Z5VACTU/399-1177-1-ND
footprint CAPC2012X09M (Chip Capacitor, 2-Leads, Body 2.00x1.25mm, IPC Low Density)
pins: 1, 2

## CAP-Z5U-10000pF-50V-+80%/-20%
designator C?, comment Cap  value 10000pF  WV: 50  Tolerance: +80%/-20%  Type: Z5U
CAP CER 10000pF 50v Z5U 0805; MPN: C0805C103Z5UACTU; Name: CAP-Z5U-10000pF-50V-+80%/-20%; PN: 399-1173-1-ND; URL: http://www.digikey.ca/product-detail/en/C0805C103Z5UACTU/399-1173-1-ND
footprint CAPC2012X09M (Chip Capacitor, 2-Leads, Body 2.00x1.25mm, IPC Low Density)
pins: 1, 2

## CAP-Z5U-10000pF-50V-±20%
designator C?, comment Cap  value 10000pF  WV: 50  Tolerance: ±20%  Type: Z5U
CAP CER 10000pF 50v Z5U 0805; MPN: C0805C103M5UACTU; Name: CAP-Z5U-10000pF-50V-±20%; PN: 399-1174-1-ND; URL: http://www.digikey.ca/product-detail/en/C0805C103M5UACTU/399-1174-1-ND
footprint CAPC2012X09M (Chip Capacitor, 2-Leads, Body 2.00x1.25mm, IPC Low Density)
pins: 1, 2

## CAP-Z5U-.1uF-50V-+80%/-20%
designator C?, comment Cap  value .1uF  WV: 50  Tolerance: +80%/-20%  Type: Z5U
CAP CER .1uF 50v Z5U 0805; MPN: C0805C104Z5UACTU; Name: CAP-Z5U-.1uF-50V-+80%/-20%; PN: 399-1175-1-ND; URL: http://www.digikey.ca/product-detail/en/C0805C104Z5UACTU/399-1175-1-ND
footprint CAPC2012X09M (Chip Capacitor, 2-Leads, Body 2.00x1.25mm, IPC Low Density)
pins: 1, 2

## CAP-Z5U-.1uF-50V-±20%
designator C?, comment Cap  value .1uF  WV: 50  Tolerance: ±20%  Type: Z5U
CAP CER .1uF 50v Z5U 0805; MPN: C0805C104M5UACTU; Name: CAP-Z5U-.1uF-50V-±20%; PN: 399-1176-1-ND; URL: http://www.digikey.ca/product-detail/en/C0805C104M5UACTU/399-1176-1-ND
footprint CAPC2012X09M (Chip Capacitor, 2-Leads, Body 2.00x1.25mm, IPC Low Density)
pins: 1, 2